# EAGLE library part TSW-110-02-S-Q (library con-samtec)
THROUGH-HOLE .025" SQ POST HEADER Source: Samtec TSW.pdf
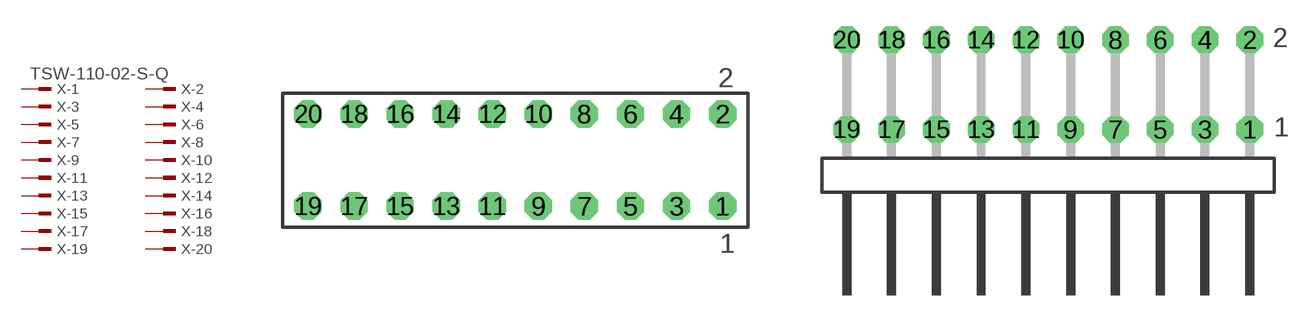
[diagram p280: symbol with the pads of TSW-110-02-S-Q; footprints TSW-110-02-S-Q, TSW-110-02-S-Q-RA]

Designator prefix X; gates -1=MPINV -2=MPIN -3=MPIN -4=MPIN -5=MPIN -6=MPIN -7=MPIN -8=MPIN -9=MPIN -10=MPIN -11=MPIN -12=MPIN -13=MPIN -14=MPIN -15=MPIN -16=MPIN -17=MPIN -18=MPIN -19=MPIN -20=MPIN

## TSW-110-02-S-Q  [TSW-110-02-S-Q]
1  -1:1  pas
2  -2:1  pas
3  -3:1  pas
4  -4:1  pas
5  -5:1  pas
6  -6:1  pas
7  -7:1  pas
8  -8:1  pas
9  -9:1  pas
10  -10:1  pas
11  -11:1  pas
12  -12:1  pas
13  -13:1  pas
14  -14:1  pas
15  -15:1  pas
16  -16:1  pas
17  -17:1  pas
18  -18:1  pas
19  -19:1  pas
20  -20:1  pas

## TSW-110-02-S-Q-RA  [TSW-110-02-S-Q-RA]
Pads as for TSW-110-02-S-Q

## Footprint TSW-110-02-S-Q (pad centres in mm)
THROUGH-HOLE .025" SQ POST HEADER Source: Samtec TSW.pdf
drill 1 pad 1.5 octagon: 1 11.43,-2.54; 2 11.43,2.54; 3 8.89,-2.54; 4 8.89,2.54; 5 6.35,-2.54; 6 6.35,2.54; 7 3.81,-2.54; 8 3.81,2.54; 9 1.27,-2.54; 10 1.27,2.54; 11 -1.27,-2.54; 12 -1.27,2.54; 13 -3.81,-2.54; 14 -3.81,2.54; 15 -6.35,-2.54; 16 -6.35,2.54; 17 -8.89,-2.54; 18 -8.89,2.54; 19 -11.43,-2.54; 20 -11.43,2.54

## Footprint TSW-110-02-S-Q-RA (pad centres in mm)
THROUGH-HOLE .025" SQ POST HEADER Source: Samtec TSW.pdf
drill 1 pad 1.5 octagon: 1 11.43,1.524; 2 11.43,6.604; 3 8.89,1.524; 4 8.89,6.604; 5 6.35,1.524; 6 6.35,6.604; 7 3.81,1.524; 8 3.81,6.604; 9 1.27,1.524; 10 1.27,6.604; 11 -1.27,1.524; 12 -1.27,6.604; 13 -3.81,1.524; 14 -3.81,6.604; 15 -6.35,1.524; 16 -6.35,6.604; 17 -8.89,1.524; 18 -8.89,6.604; 19 -11.43,1.524; 20 -11.43,6.604